# Altium footprint library CI.PcbLib: 4 footprints
Each footprint in its own frame and in the unit in brackets; x right, y up, seen from the top. Pads: shape width x height; smd on the part's side, far side on the other; paste and mask are expansions set on the pad; w line width, h text height; cw(c..) or ccw(c..) is an arc to the next point about the centre after c.
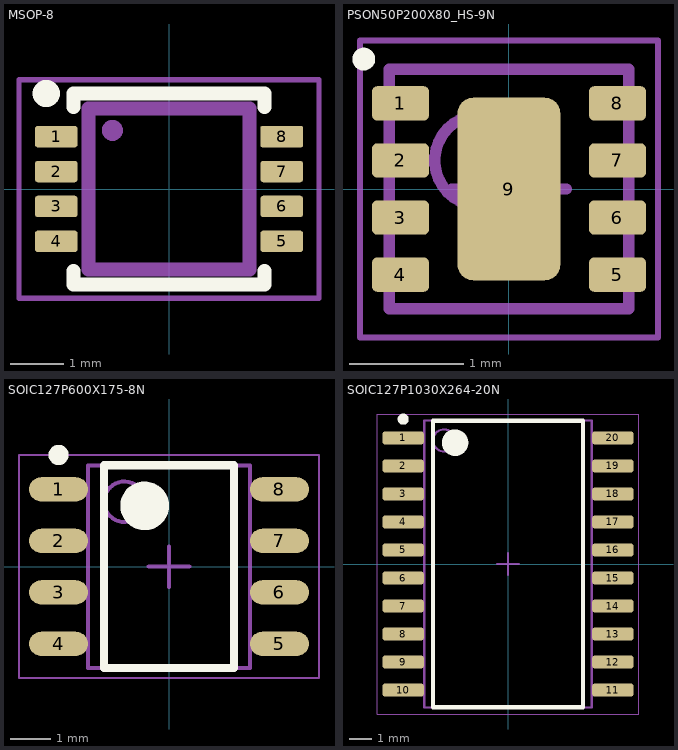
[diagram p0: the footprints below, top view; thin cyan lines are the x and y axes]

## MSOP-8 [mm]
pads (8):
  rrect30% 0.8x0.4 smd: 1(-2.1,0.975) 2(-2.1,0.325) 3(-2.1,-0.325) 4(-2.1,-0.975) 5(2.1,-0.975) 6(2.1,-0.325) 7(2.1,0.325)
  rrect20% 0.8x0.4 smd: 8(2.1,0.975)
Top Overlay:
  circle w0.254: c-2.286,1.778 r0.127
  lines w0.254: -1.778,-1.524 -1.778,-1.778 1.778,-1.778 1.778,-1.524 ; -1.778,1.524 -1.778,1.778 1.778,1.778 1.778,1.524
Mechanical 13:
  circle w0.254: c-1.054,1.092 r0.068
  lines w0.254: -1.5,-1.5 -1.5,1.5 1.5,1.5 1.5,-1.5 -1.5,-1.5
Mechanical 15:
  lines w0.1: -2.794,-2.032 2.794,-2.032 2.794,2.032 -2.794,2.032 -2.794,-2.032
3D body "User Library-MO-187F.step": height 1.1, standoff 0, extent -2.459,-1.5 2.46,1.5

## PSON50P200X80_HS-9N [mm] "PSON, 8-Leads, Body 2,00x2,00mm, Pitch 0,50mm, Thermal Pad 1,60x0,82mm, IPC Medium Density"
height 0.8
pads (9):
  rrect30% 0.5x0.3 smd: 1(-0.95,0.75) 2(-0.95,0.25) 3(-0.95,-0.25) 4(-0.95,-0.75) 5(0.95,-0.75) 6(0.95,-0.25) 7(0.95,0.25) 8(0.95,0.75)
  rrect30% 0.9x1.6 smd: 9(0,0)
Top Overlay:
  circle w0.1: c-1.272,1.137 r0.05
Mechanical 13:
  circle w0.1: c-0.25,0.25 r0.4
  lines w0.1: -1.05,-1.05 1.05,-1.05 1.05,1.05 -1.05,1.05 -1.05,-1.05
Mechanical 15:
  lines w0.05: -1.305,-1.3 1.305,-1.3 1.305,1.3 -1.305,1.3 -1.305,-1.3
  lines w0.1: -0.5,0 0.5,0 ; 0,-0.5 0,0.5
3D body: height 0.8, standoff 0, extent -1.05,-1.05 1.05,1.05

## SOIC127P600X175-8N [mm] "SOIC, 8-Leads, Body 4,90x3,90mm, Pitch 1,27mm, IPC Medium Density"
height 1.75
pads (8):
  oval 1.45x0.6 smd: 1(-2.725,1.905) 2(-2.725,0.635) 3(-2.725,-0.635) 4(-2.725,-1.905) 5(2.725,-1.905) 6(2.725,-0.635) 7(2.725,0.635) 8(2.725,1.905)
Top Overlay:
  circle w0.6: c-0.6,1.5 r0.3
  circle w0.25: c-2.725,2.755 r0.125
  lines w0.2: -1.6,-2.5 1.6,-2.5 1.6,2.5 -1.6,2.5 -1.6,-2.5
Mechanical 13:
  circle w0.1: c-1.1,1.6 r0.5
  lines w0.1: -2,-2.5 2,-2.5 2,2.5 -2,2.5 -2,-2.5
Mechanical 15:
  lines w0.05: -3.7,-2.75 3.7,-2.75 3.7,2.75 -3.7,2.75 -3.7,-2.75
  lines w0.1: -0.5,0 0.5,0 ; 0,-0.5 0,0.5
3D body "SOIC127P600-8 (SO-8)2.stp": height 1.7, standoff 0, extent -3,-2.54 3,2.54

## SOIC127P1030X264-20N [mm] "SOIC, 20-Leads, Body 12,80x7,49mm, Pitch 1,27mm, IPC Medium Density"
height 2.65
pads (20):
  rrect50% 1.9x0.6 smd: 1(-4.75,5.715) 2(-4.75,4.445) 3(-4.75,3.175) 4(-4.75,1.905) 5(-4.75,0.635) 6(-4.75,-0.635) 7(-4.75,-1.905) 8(-4.75,-3.175) 9(-4.75,-4.445) 10(-4.75,-5.715) 11(4.75,-5.715) 12(4.75,-4.445) 13(4.75,-3.175) 14(4.75,-1.905) 15(4.75,-0.635) 16(4.75,0.635) 17(4.75,1.905) 18(4.75,3.175) 19(4.75,4.445) 20(4.75,5.715)
Top Overlay:
  circle w0.6: c-2.4,5.5 r0.3
  circle w0.25: c-4.75,6.565 r0.125
  lines w0.2: -3.4,-6.5 3.4,-6.5 3.4,6.5 -3.4,6.5 -3.4,-6.5
Mechanical 13:
  circle w0.1: c-2.9,5.6 r0.5
  lines w0.1: -3.8,-6.5 3.8,-6.5 3.8,6.5 -3.8,6.5 -3.8,-6.5
Mechanical 15:
  lines w0.05: -5.925,-6.8 5.925,-6.8 5.925,6.8 -5.925,6.8 -5.925,-6.8
  lines w0.1: -0.5,0 0.5,0 ; 0,-0.5 0,0.5
3D body "SOIC127P600-20 (SO-20).stp": height 2.66, standoff 0, extent -5.315,-6.5 5.315,6.5